# EAGLE library part STM32L433CBU6 (library circuit_tree)
IC
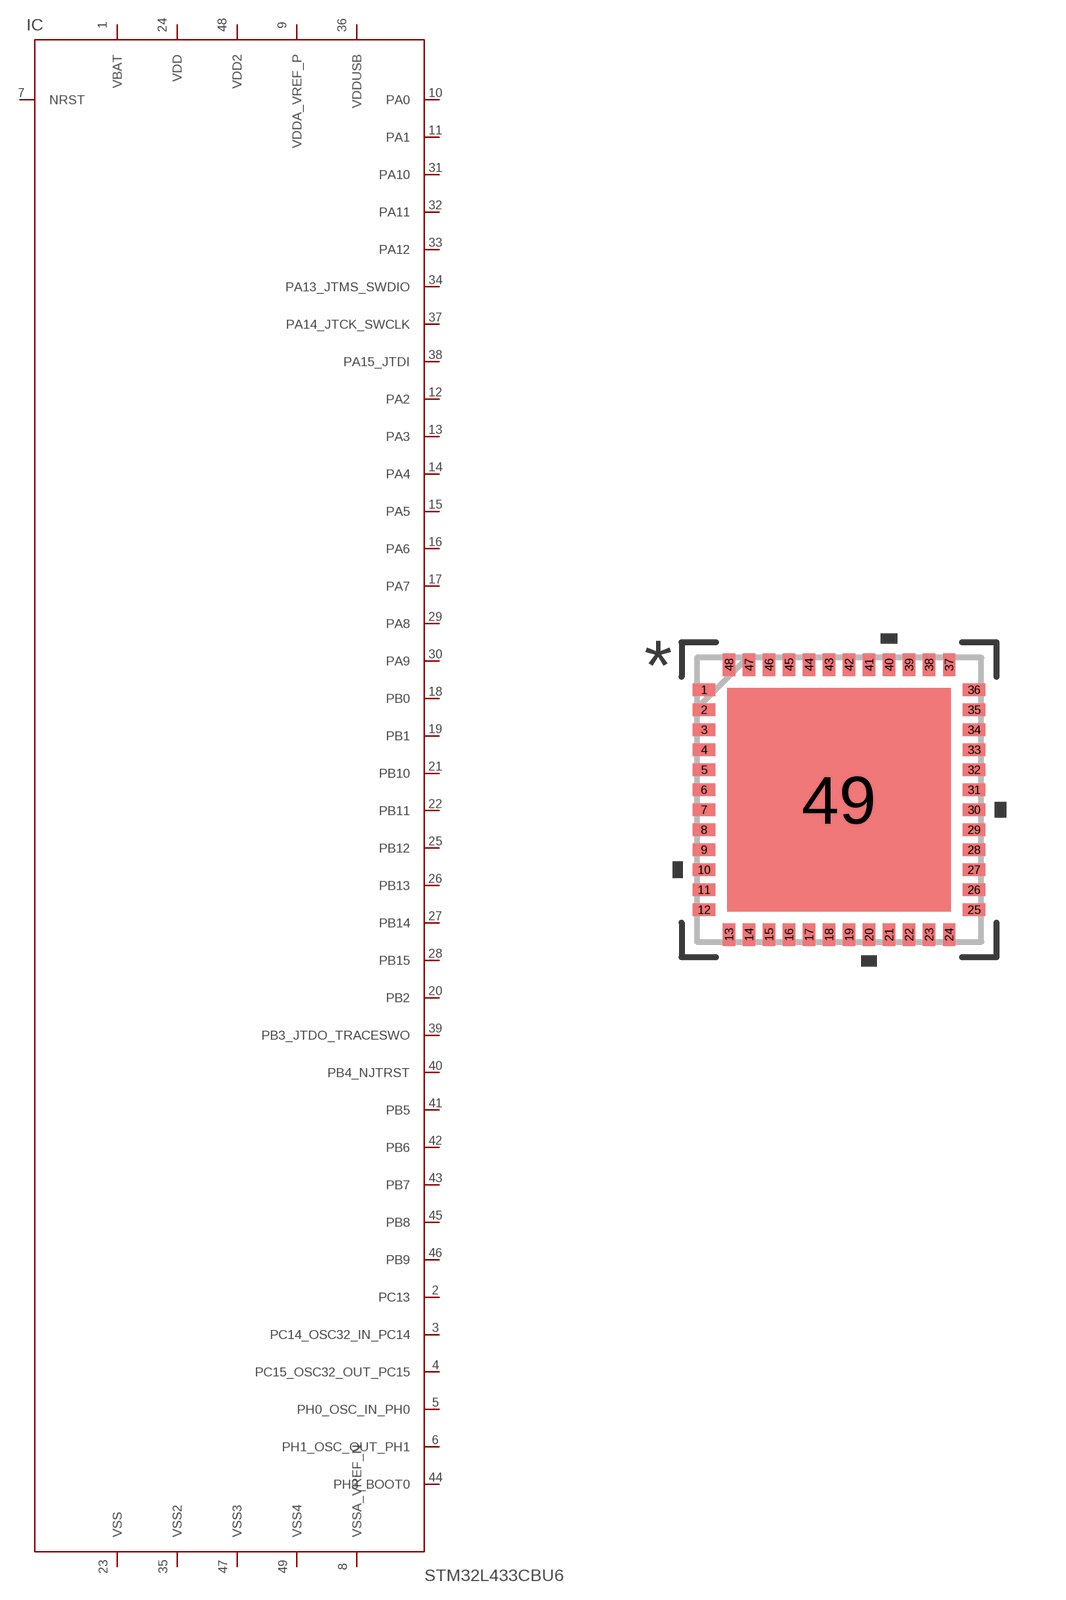
[diagram p9: symbol with the pads of UFQFPN48; footprint UFQFPN48]

Designator prefix IC

## STM32L433CBU6  [UFQFPN48]
1  VBAT  pas
2  PC13  pas
3  PC14_OSC32_IN_PC14  pas
4  PC15_OSC32_OUT_PC15  pas
5  PH0_OSC_IN_PH0  pas
6  PH1_OSC_OUT_PH1  pas
7  NRST  pas
8  VSSA_VREF_N  pas
9  VDDA_VREF_P  pas
10  PA0  pas
11  PA1  pas
12  PA2  pas
13  PA3  pas
14  PA4  pas
15  PA5  pas
16  PA6  pas
17  PA7  pas
18  PB0  pas
19  PB1  pas
20  PB2  pas
21  PB10  pas
22  PB11  pas
23  VSS  pas
24  VDD  pas
25  PB12  pas
26  PB13  pas
27  PB14  pas
28  PB15  pas
29  PA8  pas
30  PA9  pas
31  PA10  pas
32  PA11  pas
33  PA12  pas
34  PA13_JTMS_SWDIO  pas
35  VSS2  pas
36  VDDUSB  pas
37  PA14_JTCK_SWCLK  pas
38  PA15_JTDI  pas
39  PB3_JTDO_TRACESWO  pas
40  PB4_NJTRST  pas
41  PB5  pas
42  PB6  pas
43  PB7  pas
44  PH3_BOOT0  pas
45  PB8  pas
46  PB9  pas
47  VSS3  pas
48  VDD2  pas
49  VSS4  pas

## Footprint UFQFPN48 (pad centres in mm)
smd 0.559 x 0.305: 1 -3.375,2.751; 2 -3.375,2.251; 3 -3.375,1.75; 4 -3.375,1.25; 5 -3.375,0.75; 6 -3.375,0.25; 7 -3.375,-0.25; 8 -3.375,-0.75; 9 -3.375,-1.25; 10 -3.375,-1.75; 11 -3.375,-2.251; 12 -3.375,-2.751; 25 3.375,-2.751; 26 3.375,-2.251; 27 3.375,-1.75; 28 3.375,-1.25; 29 3.375,-0.75; 30 3.375,-0.25; 31 3.375,0.25; 32 3.375,0.75; 33 3.375,1.25; 34 3.375,1.75; 35 3.375,2.251; 36 3.375,2.751
smd 0.305 x 0.559: 13 -2.751,-3.375; 14 -2.251,-3.375; 15 -1.75,-3.375; 16 -1.25,-3.375; 17 -0.75,-3.375; 18 -0.25,-3.375; 19 0.25,-3.375; 20 0.75,-3.375; 21 1.25,-3.375; 22 1.75,-3.375; 23 2.251,-3.375; 24 2.751,-3.375; 37 2.751,3.375; 38 2.251,3.375; 39 1.75,3.375; 40 1.25,3.375; 41 0.75,3.375; 42 0.25,3.375; 43 -0.25,3.375; 44 -0.75,3.375; 45 -1.25,3.375; 46 -1.75,3.375; 47 -2.251,3.375; 48 -2.751,3.375
smd 5.588 x 5.588: 49 0,0